# Altium schematic symbol library Pololu 5V_5A Reg.SchLib: 1 symbol
Pins are listed as number, name and electrical type; pins without a type are passive.

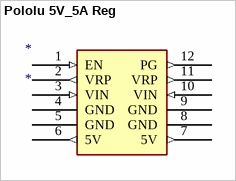
[diagram p0: symbol Pololu 5V_5A Reg]

## Pololu 5V_5A Reg
designator *
footprint Pololu 5V_5A Reg
pins: 1 EN (in), 2 VRP (out), 3 VIN (in), 4 GND (power), 5 GND (power), 6 5V (out), 7 5V (out), 8 GND (power), 9 GND (power), 10 VIN (in), 11 VRP (out), 12 PG (out)